# EAGLE library part I2C_HEADER (library Cing Library)
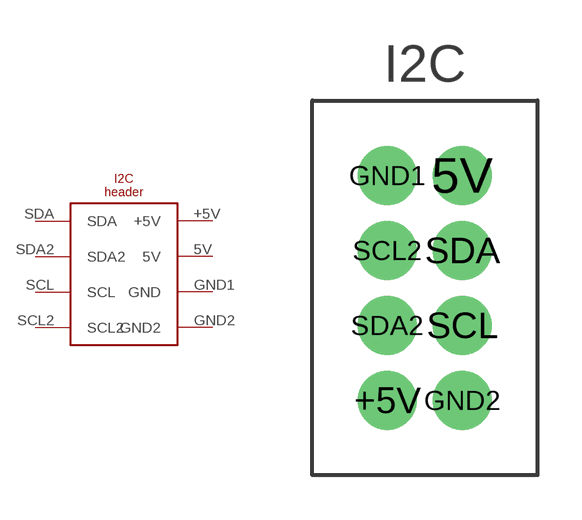
[diagram p1: symbol with the pads of I2_HEADER; footprint I2_HEADER]

Designator prefix -

## I2C_HEADER  [I2_HEADER]
5V  5V
+5V  +5V
GND1  GND
GND2  GND2
SCL  SCL
SCL2  SCL2
SDA  SDA
SDA2  SDA2

## Footprint I2_HEADER (pad centres in mm)
drill 1 pad 2: 5V 1.27,3.81; +5V -1.27,-3.81; GND1 -1.27,3.81; GND2 1.27,-3.81; SCL 1.27,-1.27; SCL2 -1.27,1.27; SDA 1.27,1.27; SDA2 -1.27,-1.27